# EAGLE library part BAS70TW-7-F (library SamacSys_Parts)
Diode Schottky 0.07A 70V SOT363 Diodes Inc BAS70TW-7-F, Triple SMT Schottky Switching Diode, Isolated, 70V 70mA, 5ns, 6-Pin SOT-363 Source: Datasheet
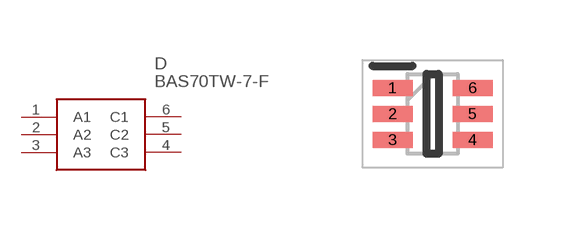
[diagram p242: symbol with the pads of SOT65P210X100-6N; footprint SOT65P210X100-6N]

Designator prefix D

## BAS70TW-7-F (DESCRIPTION: Diode Schottky 0.07A 70V SOT363 Diodes Inc BAS70TW-7-F, Triple SMT Schottky Switching Diode, Isolated, 70V 70mA, 5ns, 6-Pin SOT-363; HEIGHT: 1mm; MANUFACTURER_NAME: Diodes Inc.; MANUFACTURER_PART_NUMBER: BAS70TW-7-F; MOUSER_PART_NUMBER: 621-BAS70TW-F; MOUSER_PRICE-STOCK: https://www.mouser.co.uk/ProductDetail/Diodes-Incorporated/BAS70TW-7-F?qs=Q8pUxesYzyN4uYnZ7ygDHA%3D%3D)  [SOT65P210X100-6N]
1  A1
2  A2
3  A3
4  C3
5  C2
6  C1

## Footprint SOT65P210X100-6N (pad centres in mm)
SOT-363
smd 1 x 0.4: 1 -1,0.65; 2 -1,0; 3 -1,-0.65; 4 1,-0.65; 5 1,0; 6 1,0.65